# Altium footprint library LPS6235.PcbLib: 1 footprints
Each footprint in its own frame and in the unit in brackets; x right, y up, seen from the top. Pads: shape width x height; smd on the part's side, far side on the other; paste and mask are expansions set on the pad; w line width, h text height; cw(c..) or ccw(c..) is an arc to the next point about the centre after c.
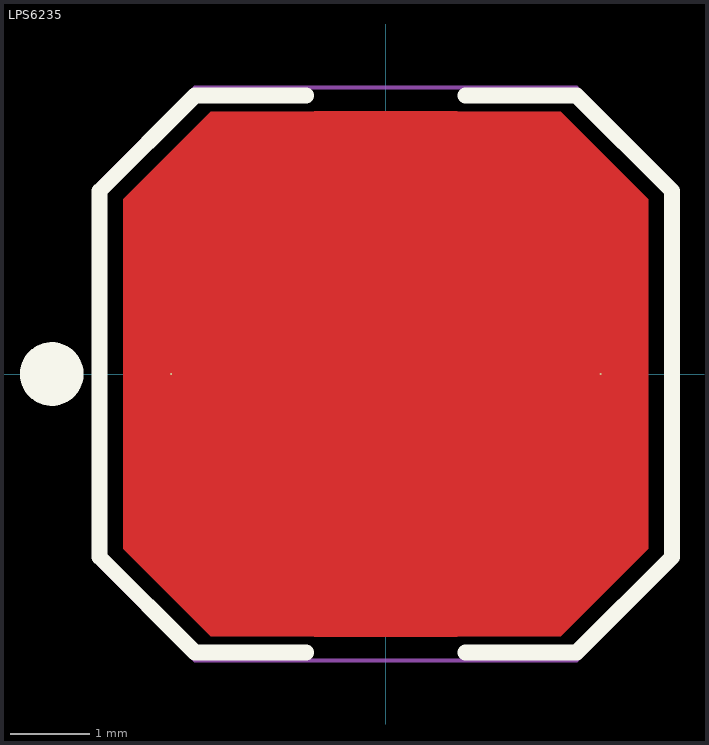
[diagram p0: the footprint, top view; thin cyan lines are the x and y axes]

## LPS6235 [mil] "Power Inductor"
height 137.8
pads (2):
  round 1 smd: 1(-106.3,0) 2(106.3,0)
Top Layer:
  pour cut-out: -35.43,-129.92 35.43,-129.92 35.43,-82.68 78.74,-39.37 78.74,39.37 35.43,82.68 35.43,129.92 -35.43,129.92 -35.43,82.68 -78.74,39.37 -78.74,-39.37 -35.43,-82.68
  region: 35.43,-129.92 86.62,-129.92 129.92,-86.61 129.92,-27.56 129.92,27.56 129.92,86.61 86.62,129.92 35.43,129.92 35.44,82.67 78.74,39.37 78.74,-39.37 35.44,-82.67
  region: -129.92,-86.61 -86.62,-129.92 -35.43,-129.92 -35.44,-82.67 -78.74,-39.37 -78.74,39.37 -35.44,82.67 -35.43,129.92 -86.62,129.92 -129.92,86.61 -129.92,27.56 -129.92,-27.56
Top Overlay:
  circle w15.75: c-165.35,0 r7.87
  lines w7.87: -39.37,-137.8 -94.49,-137.8 -141.73,-90.55 -141.73,90.55 -94.49,137.8 -39.37,137.8 ; 39.37,-137.8 94.49,-137.8 141.73,-90.55 141.73,90.55 94.49,137.8 39.37,137.8
Top Assembly:
  circle w15.75: c-90.55,0 r5.57
  lines w3.94: -118.11,-86.61 -118.11,86.61 -86.61,118.11 86.61,118.11 118.11,86.61 118.11,-86.61 86.61,-118.11 -86.61,-118.11 -118.11,-86.61
Top Courtyard:
  lines w1.97: -141.73,-94.49 -94.49,-141.73 0,-141.73 94.49,-141.73 141.73,-94.49 141.73,0 141.73,94.49 94.49,141.73 0,141.73 -94.49,141.73 -141.73,94.49 -141.73,0 -141.73,-94.49
Top Designator:
  text ".Designator" at -19.68,-19.68 h27.56
Top Component Center:
  lines w1.97: -39.37,0 39.37,0 ; 0,-39.37 0,39.37
3D body "Coilcraft-LPS6235.STEP": height 137.8, standoff 0, extent -119.62,-119.62 119.6,119.6